# Altium footprint library Passive.PcbLib: 87 footprints (part 2 of 6)
Each footprint in its own frame and in the unit in brackets; x right, y up, seen from the top. Pads: shape width x height; smd on the part's side, far side on the other; paste and mask are expansions set on the pad; w line width, h text height; cw(c..) or ccw(c..) is an arc to the next point about the centre after c.
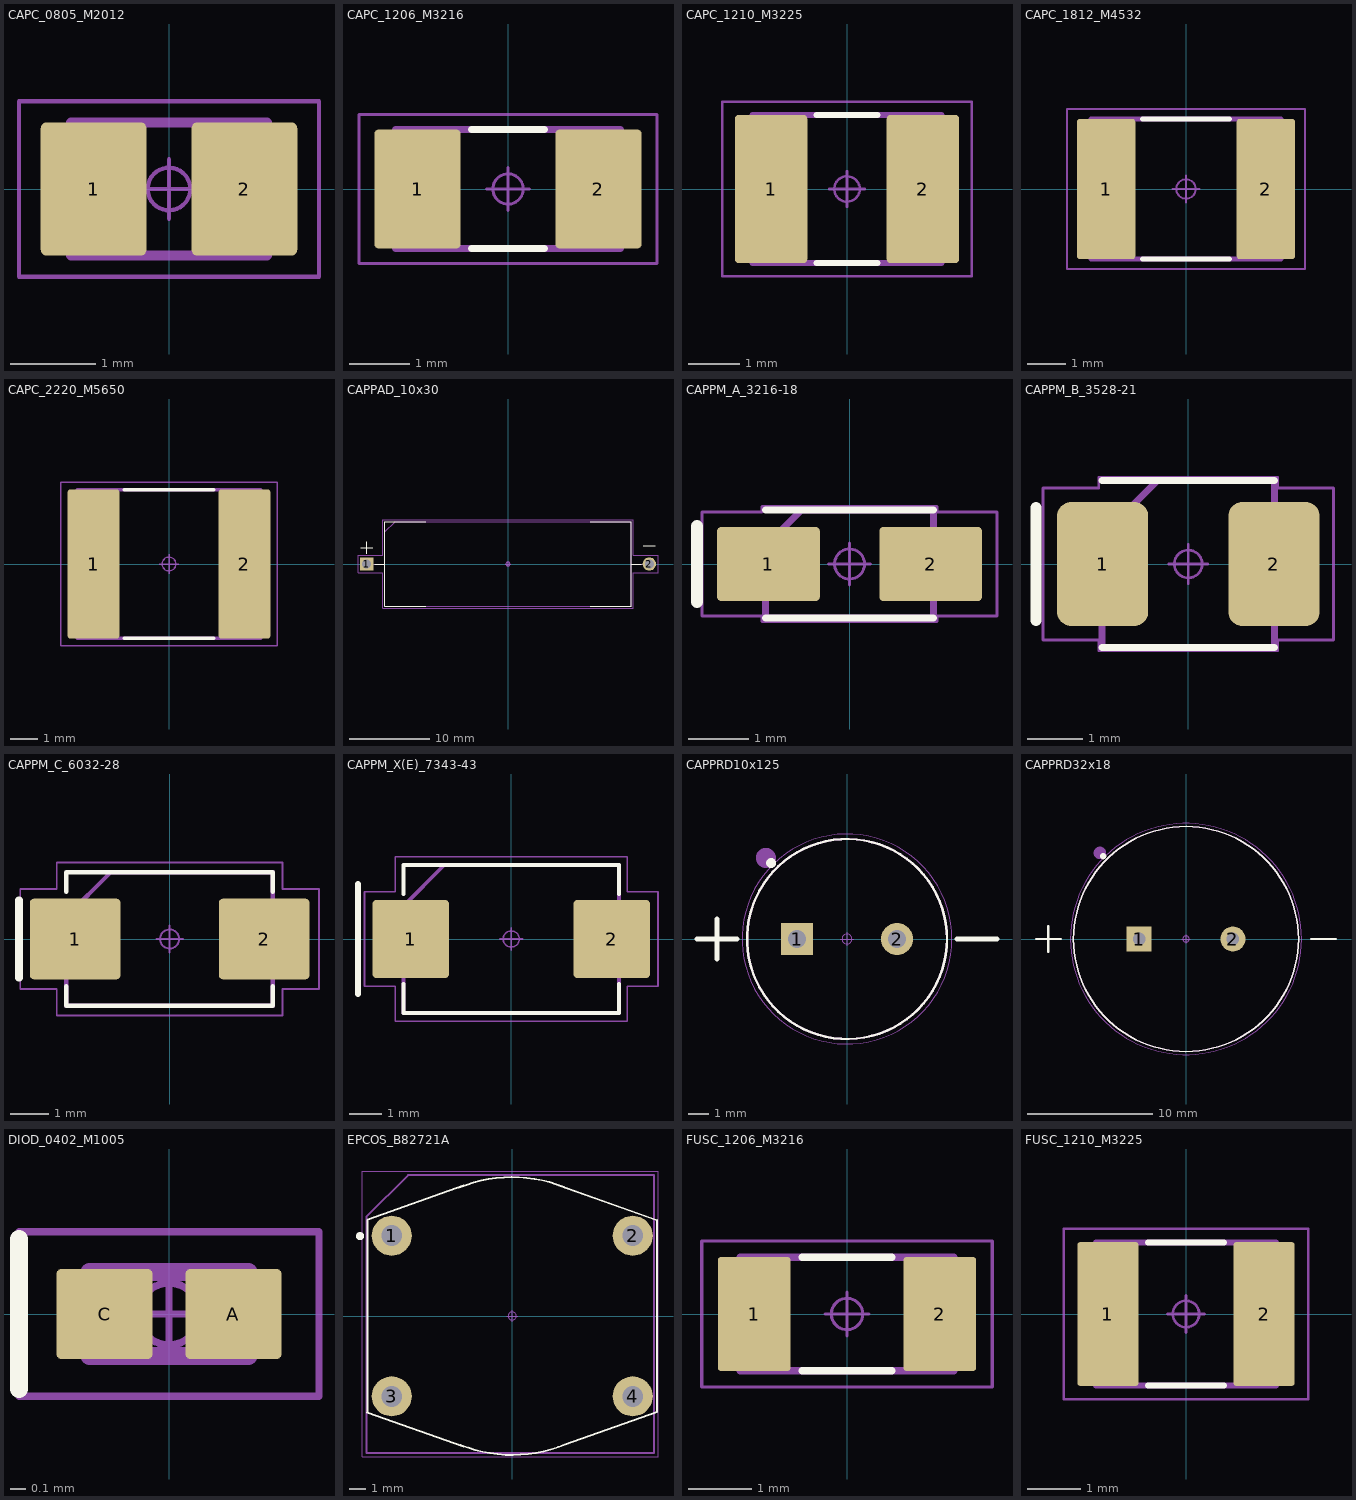
[diagram p1: the footprints below, top view; thin cyan lines are the x and y axes]

## CAPC_0805_M2012 [mm] "Capacitor, Chip; 2.00 mm L X 1.25 mm W X 1.55 mm H body"
pads (2):
  rrect10% 1.24x1.56 smd: 1(-0.885,0) 2(0.885,0)
Mechanical 11:
  lines w0.12: -1.15,-0.78 1.15,-0.78 1.15,0.78 -1.15,0.78 -1.15,-0.78
  text ".Designator" at -1.822,-0.223 h1
Mechanical 15:
  circle w0.05: c0,0 r0.25
  lines w0.05: -0.35,0 0.35,0 ; 0,-0.35 0,0.35 ; -1.76,-1.03 1.76,-1.03 1.76,1.03 -1.76,1.03 -1.76,-1.03
3D body "CAPC_0805_M2012.STEP": height 1.55, standoff 0, extent -1.15,-0.775 1.15,0.775

## CAPC_1206_M3216 [mm] "Capacitor, Chip; 3.30 mm L X 1.60 mm W X 1.95 mm H body"
pads (2):
  rrect10% 1.42x1.96 smd: 1(-1.49,0) 2(1.49,0)
Top Overlay:
  lines w0.12: -0.6,-0.98 0.6,-0.98 ; -0.6,0.98 0.6,0.98
Mechanical 11:
  lines w0.12: -1.85,-0.98 -1.85,0.98 1.85,0.98 1.85,-0.98 -1.85,-0.98
  text ".Designator" at -1.822,-0.223 h1
Mechanical 15:
  circle w0.05: c0,0 r0.25
  lines w0.05: -0.35,0 0.35,0 ; 0,-0.35 0,0.35 ; -2.45,-1.23 -2.45,1.23 2.45,1.23 2.45,-1.23 -2.45,-1.23
3D body "CAPC_1206_M3216.STEP": height 1.95, standoff 0, extent -1.85,-0.975 1.85,0.975

## CAPC_1210_M3225 [mm] "Capacitor, Chip; 3.30 mm L X 2.60 mm W X 2.90 mm H body"
pads (2):
  rrect10% 1.42x2.91 smd: 1(-1.49,0) 2(1.49,0)
Top Overlay:
  lines w0.12: -0.6,-1.45 0.6,-1.45 ; -0.6,1.45 0.6,1.45
Mechanical 11:
  lines w0.12: -1.85,-1.45 -1.85,1.45 1.85,1.45 1.85,-1.45 -1.85,-1.45
  text ".Designator" at -1.822,-0.223 h1
Mechanical 15:
  circle w0.05: c0,0 r0.25
  lines w0.05: -0.35,0 0.35,0 ; 0,-0.35 0,0.35 ; -2.45,-1.71 -2.45,1.71 2.45,1.71 2.45,-1.71 -2.45,-1.71
3D body "CAPC_1210_M3225.STEP": height 2.9, standoff 0, extent -1.85,-1.45 1.85,1.45

## CAPC_1812_M4532 [mm] "Capacitor, Chip; 4.50 mm L X 3.20 mm W X 2.80 mm H body"
pads (2):
  rrect10% 1.5x3.61 smd: 1(-2.055,0) 2(2.055,0)
Top Overlay:
  lines w0.12: -1.125,-1.8 1.125,-1.8 ; -1.125,1.8 1.125,1.8
Mechanical 11:
  lines w0.12: -2.45,-1.8 2.45,-1.8 2.45,1.8 -2.45,1.8 -2.45,-1.8
  text ".Designator" at -2.253,-0.226 h1
Mechanical 15:
  circle w0.05: c0,0 r0.25
  lines w0.05: -0.35,0 0.35,0 ; 0,-0.35 0,0.35 ; -3.06,-2.06 3.06,-2.06 3.06,2.06 -3.06,2.06 -3.06,-2.06
3D body "CAPC_1812_M4532.STEP": height 2.8, standoff 0, extent -2.45,-1.8 2.45,1.8

## CAPC_2220_M5650 [mm] "Capacitor, Chip; 5.90 mm L X 5.00 mm W X 5.40 mm H body"
pads (2):
  rrect10% 1.88x5.41 smd: 1(-2.74,0) 2(2.74,0)
Top Overlay:
  lines w0.12: -1.62,-2.7 1.62,-2.7 ; -1.62,2.7 1.62,2.7
Mechanical 11:
  lines w0.12: -3.33,-2.7 -3.33,2.7 3.33,2.7 3.33,-2.7 -3.33,-2.7
  text ".Designator" at -3.643,-0.446 h2
Mechanical 15:
  circle w0.05: c0,0 r0.25
  lines w0.05: -0.35,0 0.35,0 ; 0,-0.35 0,0.35 ; -3.93,-2.96 -3.93,2.96 3.93,2.96 3.93,-2.96 -3.93,-2.96
3D body "CAPC_2220_M5650.STEP": height 5.4, standoff 0, extent -3.325,-2.7 3.325,2.7

## CAPPAD_10x30 [mm] "Capacitor, Polarized, Axial; 35.00 mm C X 0.85 mm W 30.50 mm L X 10.50 mm Dia body"
pads (2):
  rect 1.65x1.65 hole 1.1 paste-2539.97: 1(-17.5,0)
  round 1.65 hole 1.1 paste-2539.97: 2(17.5,0)
Top Overlay:
  lines w0.12: -18.25,2 -16.75,2 ; -17.5,1.25 -17.5,2.75 ; -16.49,0 -15.25,0 ; -10.17,-5.25 -15.25,-5.25 -15.25,5.25 -10.17,5.25 ; 10.17,-5.25 15.25,-5.25 15.25,5.25 10.17,5.25 ; 15.25,0 16.49,0 ; 16.75,2.25 18.25,2.25
Mechanical 11:
  lines w0.12: -16.675,0 -15.25,0 ; 15.25,0 16.675,0 ; -15.25,-5.25 -15.25,3.98 -13.98,5.25 15.25,5.25 15.25,-5.25 -15.25,-5.25
  text ".Designator" at -6.759,-0.678 h3
Mechanical 15:
  circle w0.05: c0,0 r0.25
  lines w0.05: -0.35,0 0.35,0 ; 0,-0.35 0,0.35 ; -18.575,-1.075 -18.575,1.075 -15.5,1.075 -15.5,5.5 15.5,5.5 15.5,1.075 18.575,1.075 18.575,-1.075 15.5,-1.075 15.5,-5.5 -15.5,-5.5 -15.5,-1.075 -18.575,-1.075
3D body "CAPPAD_10x30.STEP": height 10.5, standoff -2, extent -17.95,-5.25 17.95,5.25

## CAPPM_A_3216-18 [mm] "Capacitor, Polarized, Molded Body; 3.20 mm L X 1.60 mm W X 1.80 mm H body"
pads (2):
  rrect10% 1.71x1.23 smd: 1(-1.35,0) 2(1.35,0)
Top Overlay:
  lines w0.12: -1.4,-0.9 1.4,-0.9 ; -1.4,0.9 1.4,0.9
  lines w0.2: -2.54,-0.635 -2.54,0.635
Mechanical 11:
  lines w0.12: -1.4,-0.9 1.4,-0.9 1.4,0.9 -0.8,0.9 -1.4,0.3 -1.4,-0.9
  text ".Designator" at -2.253,-0.226 h1
Mechanical 15:
  circle w0.05: c0,0 r0.25
  lines w0.05: -0.35,0 0.35,0 ; 0,-0.35 0,0.35 ; -2.455,-0.865 -1.46,-0.865 -1.46,-0.96 1.46,-0.96 1.46,-0.865 2.455,-0.865 2.455,0.865 1.46,0.865 1.46,0.96 -1.46,0.96 -1.46,0.865 -2.455,0.865 -2.455,-0.865
3D body "CAPPM_A_3216-18.STEP": height 1.8, standoff 0, extent -1.7,-0.9 1.7,0.9

## CAPPM_B_3528-21 [mm] "Capacitor, Polarized, Molded Body; 3.50 mm L X 2.80 mm W X 2.10 mm H body"
pads (2):
  rrect30% 1.64x2.23 smd: 1(-1.54,0) 2(1.54,0)
Top Overlay:
  lines w0.12: -1.55,-1.5 1.55,-1.5 ; -1.55,1.5 1.55,1.5
  lines w0.2: -2.737,-1.016 -2.737,1.016
Mechanical 11:
  lines w0.12: -1.55,-1.5 -1.55,0.5 -0.55,1.5 1.55,1.5 1.55,-1.5 -1.55,-1.5
  text ".Designator" at -2.253,-0.226 h1
Mechanical 15:
  circle w0.05: c0,0 r0.25
  lines w0.05: -0.35,0 0.35,0 ; 0,-0.35 0,0.35 ; -2.61,-1.365 -2.61,1.365 -1.61,1.365 -1.61,1.56 1.61,1.56 1.61,1.365 2.61,1.365 2.61,-1.365 1.61,-1.365 1.61,-1.56 -1.61,-1.56 -1.61,-1.365 -2.61,-1.365
3D body "CAPPM_B_3528-21.STEP": height 2.1, standoff 0, extent -1.85,-1.5 1.85,1.5

## CAPPM_C_6032-28 [mm] "Capacitor, Polarized, Molded Body; 6.00 mm L X 3.20 mm W X 2.80 mm H body"
pads (2):
  rrect10% 2.37x2.11 smd: 1(-2.47,0) 2(2.47,0)
Top Overlay:
  lines w0.12: -2.7,-1.235 -2.7,-1.75 2.7,-1.75 2.7,-1.235 ; -2.7,1.235 -2.7,1.75 2.7,1.75 2.7,1.235
  lines w0.2: -3.937,-1.016 -3.937,1.016
Mechanical 11:
  lines w0.12: -2.7,-1.75 -2.7,0.583 -1.533,1.75 2.7,1.75 2.7,-1.75 -2.7,-1.75
  text ".Designator" at -4.506,-0.452 h2
Mechanical 15:
  circle w0.05: c0,0 r0.25
  lines w0.05: -0.35,0 0.35,0 ; 0,-0.35 0,0.35 ; -3.905,-1.305 -3.905,1.305 -2.95,1.305 -2.95,2 2.95,2 2.95,1.305 3.905,1.305 3.905,-1.305 2.95,-1.305 2.95,-2 -2.95,-2 -2.95,-1.305 -3.905,-1.305
3D body "CAPPM_C_6032-28.STEP": height 2.8, standoff 0, extent -3.15,-1.75 3.15,1.75

## CAPPM_X(E)_7343-43 [mm] "Capacitor, Polarized, Molded Body; 7.30 mm L X 4.30 mm W X 4.30 mm H body"
pads (2):
  rrect10% 2.37x2.43 smd: 1(-3.12,0) 2(3.12,0)
Top Overlay:
  lines w0.12: -3.35,-1.395 -3.35,-2.3 3.35,-2.3 3.35,-1.395 ; -3.35,1.395 -3.35,2.3 3.35,2.3 3.35,1.395
  lines w0.2: -4.757,-1.695 -4.757,1.705
Mechanical 11:
  lines w0.12: -3.35,-2.3 -3.35,1.03 -2.08,2.3 3.35,2.3 3.35,-2.3 -3.35,-2.3
  text ".Designator" at -1.822,-0.223 h1
Mechanical 15:
  circle w0.05: c0,0 r0.25
  lines w0.05: -0.35,0 0.35,0 ; 0,-0.35 0,0.35 ; -4.555,-1.465 -4.555,1.465 -3.6,1.465 -3.6,2.55 3.6,2.55 3.6,1.465 4.555,1.465 4.555,-1.465 3.6,-1.465 3.6,-2.55 -3.6,-2.55 -3.6,-1.465 -4.555,-1.465
3D body "CAPPM_D_7343-43.STEP": height 4.3, standoff 0, extent -3.8,-2.3 3.8,2.3

## CAPPRD10x125 [mm] "Capacitor, Polarized, Radial (Electrolytic); 5.00 mm C X 10.00 mm Dia X 12.50 mm H body"
pads (2):
  rect 1.6x1.6 hole 0.9 paste-2539.97: 1(-2.5,0)
  round 1.6 hole 0.9 paste-2539.97: 2(2.5,0)
Top Overlay:
  circle w0.25: c-3.797,3.797 r0.125
  circle w0.12: c0,0 r5
  lines w0.25: -7.5,0 -5.5,0 ; -6.5,-1 -6.5,1 -6.5,0 ; 5.5,0 7.5,0
Mechanical 11:
  circle w0.5: c-4.059,4.059 r0.25
  circle w0.12: c0,0 r5
  text ".Designator" at -2.253,-0.226 h1
Mechanical 15:
  circle w0.05: c0,0 r0.25
  circle w0.05: c0,0 r5.25
  lines w0.05: -0.35,0 0.35,0 ; 0,-0.35 0,0.35
3D body "CAPPRD10x125.STEP": height 12.51, standoff -2, extent -5,-5 5.01,5

## CAPPRD32x18 [mm] "Capacitor, Polarized, Radial (Electrolytic); 7.50 mm C X 18.00 mm Dia X 31.50 mm H body"
pads (2):
  rect 2x2 hole 1 paste-2539.97: 1(-3.75,0)
  round 2 hole 1 paste-2539.97: 2(3.75,0)
Top Overlay:
  circle w0.25: c-6.626,6.626 r0.125
  circle w0.12: c0,0 r9
  lines w0.2: -12,0 -10,0 ; -11,1 -11,0 ; 10,0 12,0 ; -11,0 -11,-1 -11,0
Mechanical 11:
  circle w0.5: c-6.887,6.887 r0.25
  circle w0.12: c0,0 r9
  text ".Designator" at -6.759,-0.678 h3
Mechanical 15:
  circle w0.05: c0,0 r0.25
  circle w0.05: c0,0 r9.25
  lines w0.05: -0.35,0 0.35,0 ; 0,-0.35 0,0.35
3D body "CAPPRD32x18.STEP": height 31.51, standoff -2, extent -9,-9 9.01,9

## DIOD_0402_M1005 [mm] "Diod, Chip; 1х0.5x0.35mm"
pads (2):
  rrect10% 0.64x0.6 smd: A(0.43,0) C(-0.43,0)
Top Overlay:
  lines w0.12: -1,-0.5 -1,0.5
Mechanical 11:
  lines w0.12: -0.53,-0.28 0.53,-0.28 0.53,0.28 -0.53,0.28 -0.53,-0.28
  text ".Designator" at -1.822,-0.223 h1
Mechanical 15:
  circle w0.05: c0,0 r0.206
  lines w0.05: -0.275,0 0.275,0 ; 0,-0.275 0,0.275 ; -1,-0.55 1,-0.55 1,0.55 -1,0.55 -1,-0.55
3D body "CAPC_0402_M1005.STEP": height 0.55, standoff 0, extent -0.5,-0.25 0.5,0.25

## EPCOS_B82721A [mm]
pads (4):
  round 2.5 hole 1.3: 1(-7.5,5) 2(7.5,5) 3(-7.5,-5) 4(7.5,-5)
Top Overlay:
  circle w0.25: c-9.475,4.975 r0.125
  lines w0.12: -9.029,-6.002 -3.046,-8.123 ; -9.017,-5.969 -9.017,5.969 ; -8.989,6.016 -3.046,8.123 ; -3.3,7.996 cw(c0,0) 3.213,8.031 ; -3.213,-8.031 ccw(c0,0) 3.3,-7.996 9.017,-5.969 9.017,5.969 ; 2.919,8.123 9.014,5.962
Mechanical 11:
  lines w0.12: -9.082,-8.519 -9.082,6.168 -6.475,8.775 8.825,8.775 8.825,-8.519 -9.082,-8.519
Mechanical 15:
  circle w0.05: c0,0 r0.25
  lines w0.05: -0.35,0 0.35,0 ; 0,-0.35 0,0.35 ; -9.35,-8.775 -9.35,9.025 9.075,9.025 9.075,-8.775 -9.35,-8.775
3D body "B82721A.STEP": height 12.61, standoff -3.2, extent -9.077,-8.523 8.823,8.777

## FUSC_1206_M3216 [mm] "Fuse, Chip; 3.20 mm L X 1.65 mm W X 1.00 mm H body"
pads (2):
  rrect10% 1.16x1.82 smd: 1(-1.475,0) 2(1.475,0)
Top Overlay:
  lines w0.12: -0.715,-0.9 0.715,-0.9 ; -0.715,0.9 0.715,0.9
Mechanical 11:
  lines w0.12: -1.7,-0.9 1.7,-0.9 1.7,0.9 -1.7,0.9 -1.7,-0.9
  text ".Designator" at -2.253,-0.226 h1
Mechanical 15:
  circle w0.05: c0,0 r0.25
  lines w0.05: -0.35,0 0.35,0 ; 0,-0.35 0,0.35 ; -2.31,-1.16 2.31,-1.16 2.31,1.16 -2.31,1.16 -2.31,-1.16
3D body "FUSC_1206_M3216.STEP": height 1, standoff 0, extent -1.7,-0.9 1.7,0.9

## FUSC_1210_M3225 [mm] "Fuse, Chip; 3.20 mm L X 2.50 mm W X 1.40 mm H body"
pads (2):
  rrect10% 1.16x2.72 smd: 1(-1.475,0) 2(1.475,0)
Top Overlay:
  lines w0.12: -0.715,-1.35 0.715,-1.35 ; -0.715,1.35 0.715,1.35
Mechanical 11:
  lines w0.12: -1.7,-1.35 1.7,-1.35 1.7,1.35 -1.7,1.35 -1.7,-1.35
  text ".Designator" at -2.253,-0.226 h1
Mechanical 15:
  circle w0.05: c0,0 r0.25
  lines w0.05: -0.35,0 0.35,0 ; 0,-0.35 0,0.35 ; -2.31,-1.61 2.31,-1.61 2.31,1.61 -2.31,1.61 -2.31,-1.61
3D body "FUSC_1210_M3225.STEP": height 1.4, standoff 0, extent -1.7,-1.35 1.7,1.35